# Altium footprint library FPCAP-HS.PcbLib: 1 footprints
Each footprint in its own frame and in the unit in brackets; x right, y up, seen from the top. Pads: shape width x height; smd on the part's side, far side on the other; paste and mask are expansions set on the pad; w line width, h text height; cw(c..) or ccw(c..) is an arc to the next point about the centre after c.
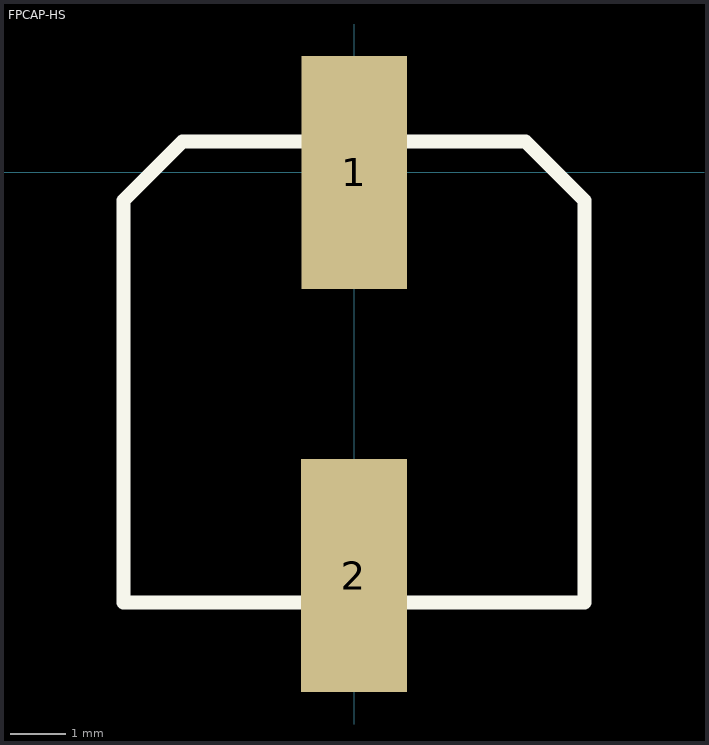
[diagram p0: the footprint, top view; thin cyan lines are the x and y axes]

## FPCAP-HS [mm]
pads (2):
  rect 1.9x4.2 smd: 1(0,0) 2(0,-7.257)
Top Overlay:
  lines w0.254: -4.15,-7.742 4.15,-7.742 4.15,-0.503 3.089,0.558 -3.089,0.558 -4.15,-0.503 -4.15,-7.742